# Altium footprint library DC309A.PcbLib: 63 footprints (part 3 of 4)
Each footprint in its own frame and in the unit in brackets; x right, y up, seen from the top. Pads: shape width x height; smd on the part's side, far side on the other; paste and mask are expansions set on the pad; w line width, h text height; cw(c..) or ccw(c..) is an arc to the next point about the centre after c.
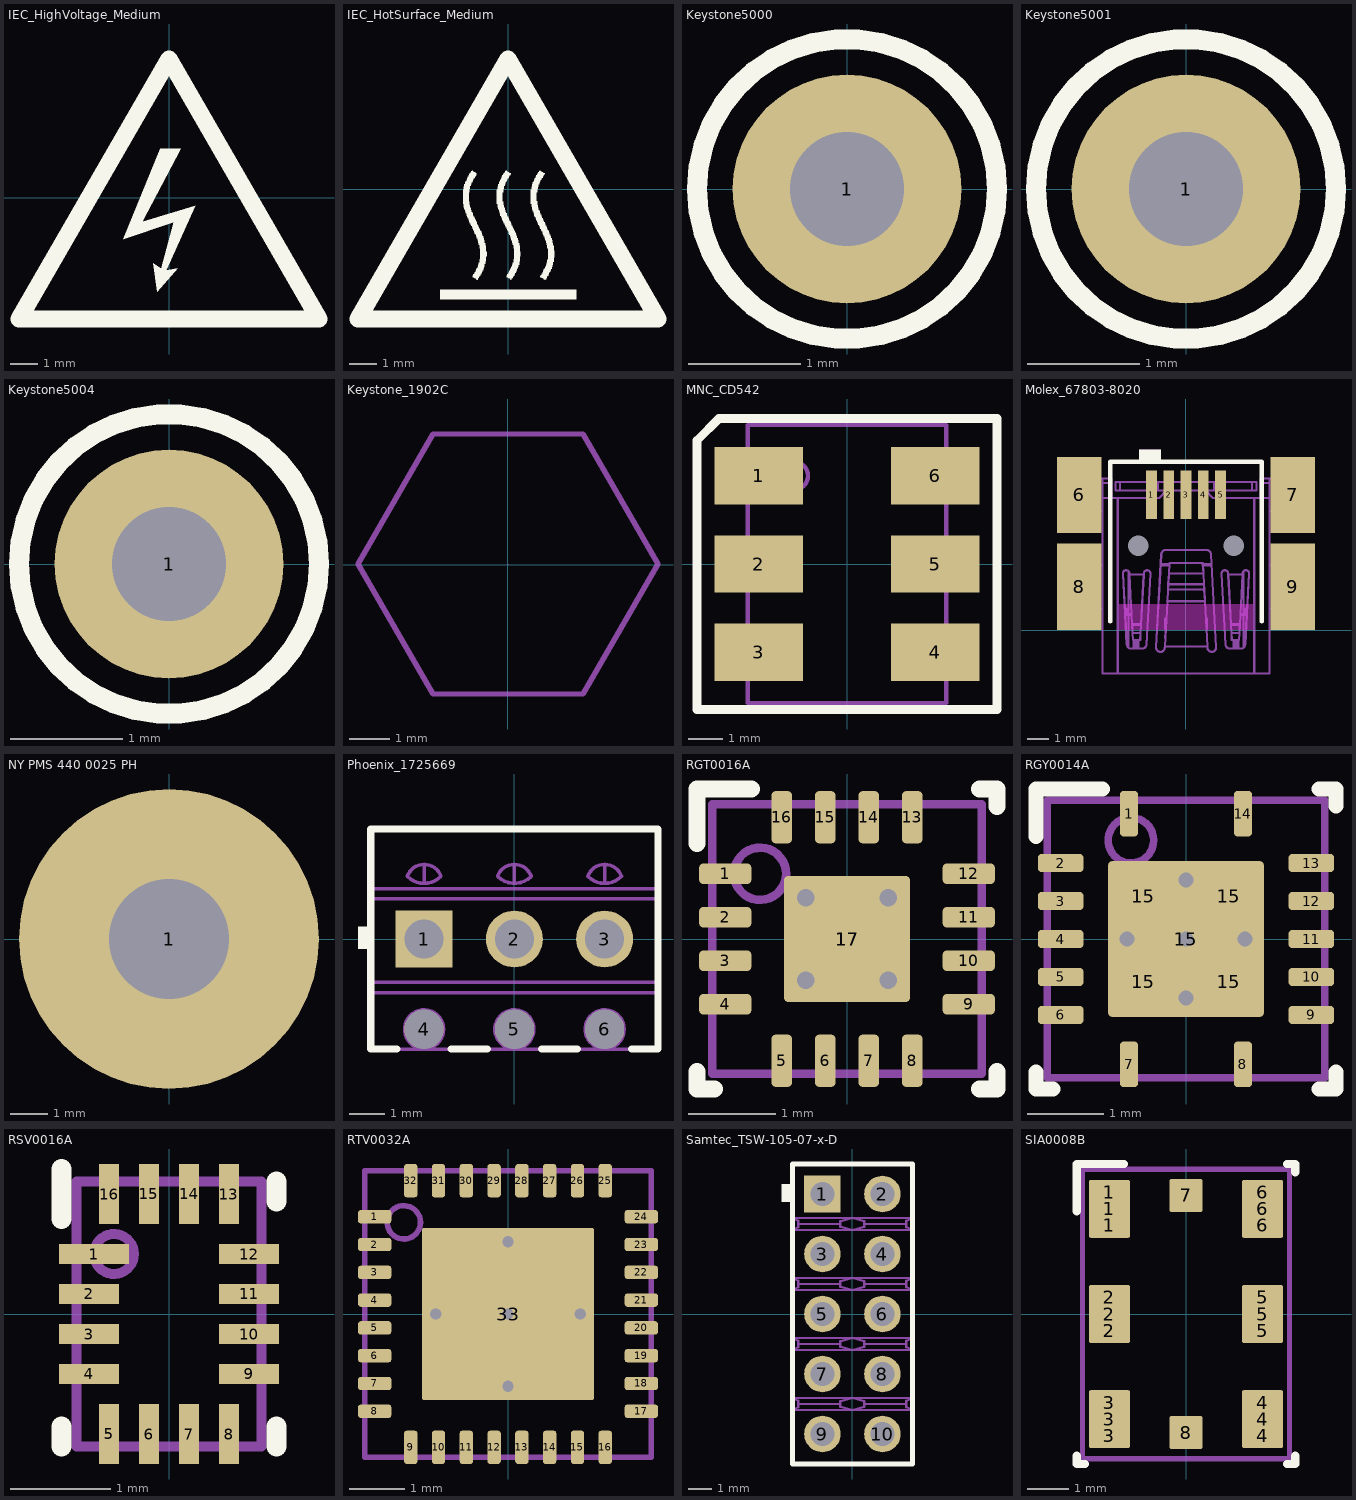
[diagram p2: the footprints below, top view; thin cyan lines are the x and y axes]

## IEC_HighVoltage_Medium [mm]
height 1.75
Top Overlay:
  region: -0.33,1.803 0.432,1.803 -0.991,-0.889 0.965,-0.305 -0.102,-2.667 0.33,-2.591 -0.432,-3.454 -0.584,-2.413 -0.279,-2.616 0.178,-0.914 -1.676,-1.524
  lines w0.635: -5.512,-4.458 5.512,-4.458 0,5.089 -5.512,-4.458

## IEC_HotSurface_Medium [mm]
Top Overlay:
  drawing of 7 lines, arcs and shapes, not listed

## Keystone5000 [mil] "For Keystone 500x miniature loop terminals"
height 181.1
pads (1):
  round 80 hole 40: 1(0,0)
Top Overlay:
  circle w7: c0,0 r52.5
Mechanical 5:
  circle w3.94: c0,0 r52.5
  text ".Designator" at -17,97 h18
3D body "Keystone_5000.stp": height 181.97, standoff -118.11, extent -49,-49 49.04,49.24

## Keystone5001 [mil] "For Keystone 500x miniature loop terminals"
height 181.1
pads (1):
  round 80 hole 40: 1(0,0)
Top Overlay:
  circle w7: c0,0 r52.5
Mechanical 5:
  circle w3.94: c0,0 r52.5
  text ".Designator" at -14.87,88 h18
3D body "Keystone_5001.stp": height 181.97, standoff -118.11, extent -49,-49 49.04,49.24

## Keystone5004 [mil] "For Keystone 500x miniature loop terminals"
height 181.1
pads (1):
  round 80 hole 40: 1(0,0)
Top Overlay:
  circle w7: c0,0 r52.5
Mechanical 5:
  circle w3.94: c0,0 r52.5
  text ".Designator" at -17,91 h18
3D body "Keystone_5004.stp": height 181.97, standoff -118.11, extent -49,-49 49.04,49.24

## Keystone_1902C [mil] "Hex Standoff, 4-40 threaded, nylon"
height 500
pads (1):
  round 1 on Mech3: 0(0,0)
Mechanical 5:
  lines w5: -145.29,0.49 -72.56,126.47 72.92,126.47 145.65,0.49 72.92,-125.49 -72.56,-125.49 -145.29,0.49
  text ".Designator" at -60,-20 h40
3D body "Keystone_1902C.stp": height 501, standoff 1, extent -144.95,-125.98 146,125.98

## MNC_CD542 [mil] "Mini-Circuits recommended land pattern 98-CD.doc rev K 11/06/06"
height 112
pads (6):
  rect 100x65 smd: 1(-100,100) 2(-100,0) 3(-100,-100) 4(100,-100) 5(100,0) 6(100,100)
Top Overlay:
  lines w10: -170,-165 0,-165 170,-165 170,0 170,165 0,165 -145,165 -170,140 -170,0 -170,-165
Mechanical 5:
  circle w5: c-60,100 r15.81
  lines w5: -112.5,-115 -141,-115 -141,-85 -112.5,-85 ; -112.5,-15 -141,-15 -141,15 -112.5,15 ; -112.5,85 -141,85 -141,115 -112.5,115 ; 112.5,-115 141,-115 141,-85 112.5,-85 ; 112.5,-15 141,-15 141,15 112.5,15 ; 112.5,85 141,85 141,115 112.5,115 ; -112.5,-157.5 -112.5,0 -112.5,157.5 0,157.5 112.5,157.5 112.5,0 112.5,-157.5 0,-157.5 -112.5,-157.5
  text ".Designator" at -31.64,-15.65 h40
3D body: height 10, standoff 0, extent 112.52,85.02 140.98,114.98
3D body: height 10, standoff 0, extent 112.52,-14.98 140.98,14.98
3D body: height 10, standoff 0, extent 112.52,-114.98 140.98,-85.02
3D body: height 10, standoff 0, extent -140.98,85.02 -112.52,114.98
3D body: height 112, standoff 0, extent -112.48,-157.48 112.48,157.48
3D body: height 10, standoff 0, extent -140.98,-14.98 -112.52,14.98
3D body: height 10, standoff 0, extent -140.98,-114.98 -112.52,-85.02
3D body: height 112.01, standoff 110, extent -75.79,84.21 -44.21,115.79

## Molex_67803-8020 [mm] "SMD, 5-Leads, Body 9.9x9mm, R/A"
height 4
pads (11):
  rect 0.5x2.25 smd: 1(-1.6,6.25) 2(-0.8,6.25) 3(0,6.25) 4(0.8,6.25) 5(1.6,6.25)
  rect 2.05x3.5 smd: 6(-4.925,6.25) 7(4.925,6.25)
  rect 2.05x4 smd: 8(-4.925,2) 9(4.925,2)
  rect 0x0 hole 0.95 unplated mask+0.127: MH1(-2.2,3.9) MH2(2.2,3.9)
Top Layer keep-out:
  region: 3.1,0 3.1,1.2 -3.1,1.2 -3.1,0
Top Overlay:
  region: -2.162,8.342 -2.162,7.87 -1.146,7.87 -1.146,8.342
  lines w0.2: -3.5,0.4 -3.5,7.775 3.5,7.775 3.5,0.4
Mechanical 5:
  drawing of 270 lines, arcs and shapes, not listed
  text ".Designator" at -4.379,4.858 h1.02
3D body "678038020.stp": height 4, standoff -0.95, extent -4.95,-2 4.95,7

## NY PMS 440 0025 PH [mm] "4-40 nylon screw and mounting hole"
height 1.905
pads (1):
  round 8 hole 3.2: 1(0,0)
Mechanical 5:
  circle w0.127: c0,0 r3.789
  text ".Designator" at -1.524,-0.508 h1.02
3D body "B_F_NY PMS 440 0025 PH.stp": height 2.69, standoff -8.74, extent -3.302,-3.3 3.296,3.3

## Phoenix_1725669 [mm] "Terminal Block, 3x1, 2.54 mm, TH"
height 8.5
pads (6):
  rect 1.6x1.6 hole 1.1: 1(-2.54,0)
  round 1.6 hole 1.1: 2(0,0) 3(2.54,0)
  round 1.1 hole 1.1 unplated mask+0.127: 4(-2.54,-2.54) 5(0,-2.54) 6(2.54,-2.54)
Top Overlay:
  rectangle: -4.4,-0.275 -4.075,0.35
  lines w0.2: -3.3,-3.1 -4.04,-3.1 -4.04,3.1 4.04,3.1 4.04,-3.1 3.3,-3.1 ; -1.78,-3.1 -0.76,-3.1 ; 0.76,-3.1 1.78,-3.1
Mechanical 5:
  circle w0.1: c0,-2.54 r0.55
  circle w0.1: c-2.54,-2.54 r0.55
  circle w0.1: c2.54,-2.54 r0.55
  lines w0.1: -4.04,-1.51 4.04,-1.51 ; -4.04,-1.22 4.04,-1.22 ; -4.04,1.132 4.04,1.132 ; -4.04,1.417 4.04,1.417 ; -2.54,1.6 -2.54,2.1 ; 0,1.6 0,2.1 ; 2.54,1.6 2.54,2.1 ; -2.54,2.1 ccw(c-2.54,1.6) -3.013,1.763 ccw(c-2.54,2.235) -2.067,1.763 ccw(c-2.54,1.6) -2.54,2.1 ; 0,2.1 cw(c0,1.6) 0.473,1.763 cw(c0,2.235) -0.473,1.763 cw(c0,1.6) 0,2.1 ; 2.54,2.1 ccw(c2.54,1.6) 2.067,1.763 ccw(c2.54,2.235) 3.013,1.763 ccw(c2.54,1.6) 2.54,2.1 ; -4.04,-3.1 4.04,-3.1 4.04,3.1 -4.04,3.1 -4.04,-3.1
  text ".Designator" at 6.34,0.503 h1.02
3D body "1725669.stp": height 8.5, standoff -3.5, extent -4.04,-3.1 4.04,3.1

## RGT0016A [mm] "QFN, 16-Leads, Body 3x3mm, Pitch 0.5mm, Thermal Pad 1.45x1.45mm, TI Recommended"
height 1
pads (18):
  rrect42% 0.6x0.24 smd: 1(-1.4,0.75) 2(-1.4,0.25) 3(-1.4,-0.25) 4(-1.4,-0.75) 9(1.4,-0.75) 10(1.4,-0.25) 11(1.4,0.25) 12(1.4,0.75)
  rrect42% 0.24x0.6 smd: 5(-0.75,-1.4) 6(-0.25,-1.4) 7(0.25,-1.4) 8(0.75,-1.4) 13(0.75,1.4) 14(0.25,1.4) 15(-0.25,1.4) 16(-0.75,1.4)
  rrect50% 1.34x1.34 on Top Paste: 17(0,0)
  rrect7% 1.45x1.45 smd paste-0.725: 17(0,0)
via 0.475,0.475 diameter 0.5 hole 0.2
via 0.475,-0.475 diameter 0.5 hole 0.2
via -0.475,-0.475 diameter 0.5 hole 0.2
via -0.475,0.475 diameter 0.5 hole 0.2
Top Overlay:
  lines w0.2: -1.725,-1.525 -1.725,-1.725 -1.525,-1.725 ; -1.725,1.1 -1.725,1.725 -1.1,1.725 ; 1.525,-1.725 1.725,-1.725 1.725,-1.525 ; 1.525,1.725 1.725,1.725 1.725,1.525
Mechanical 5:
  circle w0.1: c-1,0.75 r0.3
  lines w0.1: -1.55,-1.55 1.55,-1.55 1.55,1.55 -1.55,1.55 -1.55,-1.55
  text ".Designator" at 0.791,-1.176 h1.4
3D body "RGT0016A.stp": height 1, standoff 0, extent -1.5,-1.5 1.5,1.5

## RGY0014A [mm] "QFN, 14-Leads, Body 3.5x3.5mm, Pitch 0.5mm, Thermal Pad 2.05x2.05mm, TI Recommended"
height 1
pads (19):
  rrect42% 0.24x0.6 smd: 1(-0.75,1.65) 7(-0.75,-1.65) 8(0.75,-1.65) 14(0.75,1.65)
  rrect42% 0.6x0.24 smd: 2(-1.65,1) 3(-1.65,0.5) 4(-1.65,0) 5(-1.65,-0.5) 6(-1.65,-1) 9(1.65,-1) 10(1.65,-0.5) 11(1.65,0) 12(1.65,0.5) 13(1.65,1)
  rrect50% 0.92x0.92 on Top Paste: 15(-0.56,-0.56) 15(-0.56,0.56) 15(0.56,-0.56) 15(0.56,0.56)
  rrect5% 2.05x2.05 smd paste-1.025: 15(0,0)
via 0,0 diameter 0.5 hole 0.2
via 0.775,0 diameter 0.5 hole 0.2
via 0,0.775 diameter 0.5 hole 0.2
via -0.775,0 diameter 0.5 hole 0.2
via 0,-0.775 diameter 0.5 hole 0.2
Top Overlay:
  lines w0.2: -1.975,-1.75 -1.975,-1.975 -1.75,-1.975 ; -1.975,1.35 -1.975,1.975 -1.1,1.975 ; 1.75,-1.975 1.975,-1.975 1.975,-1.75 ; 1.75,1.975 1.975,1.975 1.975,1.75
Mechanical 5:
  circle w0.1: c-0.725,1.3 r0.3
  lines w0.1: -1.825,-1.825 -1.825,1.825 1.825,1.825 1.825,-1.825 -1.825,-1.825
  text ".Designator" at -0.603,-0.678 h0.76
3D body "RGY0014A.stp": height 0.97, standoff 0, extent -1.75,-1.75 1.75,1.75

## RSV0016A [mm] "QFN, 16-Leads, Body 1.8x2.6mm, Pitch 0.4mm, TI Recommended"
height 0.55
pads (16):
  rect 0.7x0.2 smd: 1(-0.75,0.6)
  rect 0.6x0.2 smd: 2(-0.8,0.2) 3(-0.8,-0.2) 4(-0.8,-0.6) 9(0.8,-0.6) 10(0.8,-0.2) 11(0.8,0.2) 12(0.8,0.6)
  rect 0.2x0.6 smd: 5(-0.6,-1.2) 6(-0.2,-1.2) 7(0.2,-1.2) 8(0.6,-1.2) 13(0.6,1.2) 14(0.2,1.2) 15(-0.2,1.2) 16(-0.6,1.2)
Top Overlay:
  lines w0.2: -1.075,-1.325 -1.075,-1.125 ; -1.075,0.95 -1.075,1.45 ; 1.075,-1.325 1.075,-1.125 ; 1.075,1.125 1.075,1.325
Mechanical 5:
  circle w0.1: c-0.55,0.6 r0.2
  lines w0.1: -0.925,-1.325 -0.925,1.325 0.925,1.325 0.925,-1.325 -0.925,-1.325
  text ".Designator" at 0.533,-0.178 h0.38
3D body: height 0.55, standoff 0, extent -0.925,-1.325 0.925,1.325
3D body: height 0.56, standoff 0.4, extent -0.749,0.401 -0.351,0.799

## RTV0032A [mm] "WQFN-32"
height 0.8
pads (33):
  rrect42% 0.6x0.24 smd: 1(-2.4,1.75) 2(-2.4,1.25) 3(-2.4,0.75) 4(-2.4,0.25) 5(-2.4,-0.25) 6(-2.4,-0.75) 7(-2.4,-1.25) 8(-2.4,-1.75) 17(2.4,-1.75) 18(2.4,-1.25) 19(2.4,-0.75) 20(2.4,-0.25) 21(2.4,0.25) 22(2.4,0.75) 23(2.4,1.25) 24(2.4,1.75)
  rrect42% 0.24x0.6 smd: 9(-1.75,-2.4) 10(-1.25,-2.4) 11(-0.75,-2.4) 12(-0.25,-2.4) 13(0.25,-2.4) 14(0.75,-2.4) 15(1.25,-2.4) 16(1.75,-2.4) 25(1.75,2.4) 26(1.25,2.4) 27(0.75,2.4) 28(0.25,2.4) 29(-0.25,2.4) 30(-0.75,2.4) 31(-1.25,2.4) 32(-1.75,2.4)
  rrect3% 3.1x3.1 smd paste-1.55: 33(0,0)
via 1.3,0 diameter 0.5 hole 0.2
via 0,1.3 diameter 0.5 hole 0.2
via 0,0 diameter 0.5 hole 0.2
via 0,-1.3 diameter 0.5 hole 0.2
via -1.3,0 diameter 0.5 hole 0.2
Top Paste:
  region: 0.1,0.15 0.1,1.4 0.1,1.41 0.108,1.428 0.122,1.442 0.14,1.45 0.15,1.45 1.4,1.45 1.41,1.45 1.428,1.442 1.442,1.428 1.45,1.41 1.45,1.4 1.45,0.15 1.45,0.14 1.442,0.122 1.428,0.108 1.41,0.1 1.4,0.1 0.15,0.1 0.14,0.1 0.122,0.108 0.108,0.122 0.1,0.14
  region: -0.1,0.15 -0.1,1.4 -0.1,1.41 -0.108,1.428 -0.122,1.442 -0.14,1.45 -0.15,1.45 -1.4,1.45 -1.41,1.45 -1.428,1.442 -1.442,1.428 -1.45,1.41 -1.45,1.4 -1.45,0.15 -1.45,0.14 -1.442,0.122 -1.428,0.108 -1.41,0.1 -1.4,0.1 -0.15,0.1 -0.14,0.1 -0.122,0.108 -0.108,0.122 -0.1,0.14
  region: -0.1,-0.15 -0.1,-1.4 -0.1,-1.41 -0.108,-1.428 -0.122,-1.442 -0.14,-1.45 -0.15,-1.45 -1.4,-1.45 -1.41,-1.45 -1.428,-1.442 -1.442,-1.428 -1.45,-1.41 -1.45,-1.4 -1.45,-0.15 -1.45,-0.14 -1.442,-0.122 -1.428,-0.108 -1.41,-0.1 -1.4,-0.1 -0.15,-0.1 -0.14,-0.1 -0.122,-0.108 -0.108,-0.122 -0.1,-0.14
  region: 0.1,-0.15 0.1,-1.4 0.1,-1.41 0.108,-1.428 0.122,-1.442 0.14,-1.45 0.15,-1.45 1.4,-1.45 1.41,-1.45 1.428,-1.442 1.442,-1.428 1.45,-1.41 1.45,-1.4 1.45,-0.15 1.45,-0.14 1.442,-0.122 1.428,-0.108 1.41,-0.1 1.4,-0.1 0.15,-0.1 0.14,-0.1 0.122,-0.108 0.108,-0.122 0.1,-0.14
Mechanical 5:
  circle w0.1: c-1.875,1.65 r0.3
  lines w0.1: -2.575,-2.575 2.575,-2.575 2.575,2.575 -2.575,2.575 -2.575,-2.575
  text ".Designator" at 1.17,0.304 h1.02
3D body "RTV0032A.stp": height 0.8, standoff 0, extent -2.5,-2.5 2.5,2.5

## Samtec_TSW-105-07-x-D [mm] "Header, 2.54mm, 5x2, TH"
height 8.38
pads (10):
  rect 1.55x1.55 hole 1.02: 1(-1.27,5.08)
  round 1.55 hole 1.02: 2(1.27,5.08) 3(-1.27,2.54) 4(1.27,2.54) 5(-1.27,0) 6(1.27,0) 7(-1.27,-2.54) 8(1.27,-2.54) 9(-1.27,-5.08) 10(1.27,-5.08)
Top Overlay:
  rectangle: -3,4.75 -2.54,5.5
  lines w0.2: -2.54,-6.35 -2.54,6.35 2.54,6.35 2.54,-6.35 -2.54,-6.35
Mechanical 5:
  lines w0.1: -2.54,-4.064 -2.54,-6.35 2.54,-6.35 2.54,-4.064 ; -2.54,-4.064 0,-4.064 ; -2.54,-4.064 -2.286,-3.94 -2.286,-3.81 ; -2.54,-3.556 -2.54,-1.524 ; -2.54,-3.556 0,-3.556 ; -2.54,-3.556 -2.286,-3.68 -2.286,-3.81 ; -2.54,-1.524 -2.286,-1.4 -2.286,-1.27 ; -2.54,-1.524 0,-1.524 ; -2.54,-1.016 -2.286,-1.14 -2.286,-1.27 ; -2.54,-1.016 -2.54,1.016 ; -2.54,-1.016 0,-1.016 ; -2.54,1.016 0,1.016 ; -2.54,1.016 -2.286,1.14 -2.286,1.27 ; -2.54,1.524 0,1.524 ; -2.54,1.524 -2.54,3.556 ; -2.54,1.524 -2.286,1.4 -2.286,1.27 ; -2.54,3.556 0,3.556 ; -2.54,3.556 -2.286,3.68 -2.286,3.81 ; -2.54,4.064 -2.54,6.35 2.54,6.35 2.54,4.064 ; -2.54,4.064 -2.286,3.94 -2.286,3.81 ; -2.54,4.064 0,4.064 ; -2.286,-3.81 -0.508,-3.81 ; -2.286,-1.27 -0.508,-1.27 ; -2.286,1.27 -0.508,1.27 ; -2.286,3.81 -0.508,3.81 ; -0.508,-3.81 -0.508,-3.693 0,-3.556 ; -0.508,-3.81 -0.508,-3.927 0,-4.064 ; -0.508,-1.27 -0.508,-1.387 0,-1.524 ; -0.508,-1.27 -0.508,-1.153 0,-1.016 ; -0.508,1.27 -0.508,1.153 0,1.016 ; -0.508,1.27 -0.508,1.387 0,1.524 ; -0.508,3.81 -0.508,3.927 0,4.064 ; -0.508,3.81 -0.508,3.693 0,3.556 ; 0,-4.064 0.508,-3.927 0.508,-3.81 ; 0,-4.064 2.54,-4.064 ; 0,-3.556 2.54,-3.556 ; 0,-3.556 0.508,-3.693 0.508,-3.81 ; 0,-1.524 2.54,-1.524 ; 0,-1.524 0.508,-1.387 0.508,-1.27 ; 0,-1.016 0.508,-1.153 0.508,-1.27 ; 0,-1.016 2.54,-1.016 ; 0,1.016 0.508,1.153 0.508,1.27 ; 0,1.016 2.54,1.016 ; 0,1.524 2.54,1.524 ; 0,1.524 0.508,1.387 0.508,1.27 ; 0,3.556 0.508,3.693 0.508,3.81 ; 0,3.556 2.54,3.556 ; 0,4.064 0.508,3.927 0.508,3.81 ; 0,4.064 2.54,4.064 ; 0.508,-3.81 2.286,-3.81 ; 0.508,-1.27 2.286,-1.27 ; 0.508,1.27 2.286,1.27 ; 0.508,3.81 2.286,3.81 ; 2.286,-3.81 2.286,-3.94 2.54,-4.064 ; 2.286,-3.81 2.286,-3.68 2.54,-3.556 ; 2.286,-1.27 2.286,-1.14 2.54,-1.016 ; 2.286,-1.27 2.286,-1.4 2.54,-1.524 ; 2.286,1.27 2.286,1.14 2.54,1.016 ; 2.286,1.27 2.286,1.4 2.54,1.524 ; 2.286,3.81 2.286,3.68 2.54,3.556 ; 2.286,3.81 2.286,3.94 2.54,4.064 ; 2.54,-3.556 2.54,-1.524 ; 2.54,-1.016 2.54,1.016 ; 2.54,1.524 2.54,3.556
  text ".Designator" at 4.318,-1.092 h1.85
3D body "TSW-105-07-F-D.stp": height 8.39, standoff -2.53, extent -2.54,-6.35 2.54,6.35

## SIA0008B [mm] "SIP 8-Leads, Body 5x7mm"
height 1.1
pads (20):
  rrect50% 1x0.6 on Top Paste: 1(-1.85,2.14) 1(-1.85,2.94) 2(-1.85,-0.4) 2(-1.85,0.4) 3(-1.85,-2.94) 3(-1.85,-2.14) 4(1.85,-2.94) 4(1.85,-2.14) 5(1.85,-0.4) 5(1.85,0.4) 6(1.85,2.14) 6(1.85,2.94)
  rrect10% 1x1.4 smd paste-0.5: 1(-1.85,2.54) 2(-1.85,0) 3(-1.85,-2.54) 4(1.85,-2.54) 5(1.85,0) 6(1.85,2.54)
  rrect12% 0.8x0.8 smd: 7(0,2.865) 8(0,-2.865)
Top Overlay:
  lines w0.2: -2.64,-3.425 -2.64,-3.625 -2.44,-3.625 ; -2.64,2.485 -2.64,3.625 -1.5,3.625 ; 2.44,-3.625 2.64,-3.625 2.64,-3.425 ; 2.44,3.625 2.64,3.625 2.64,3.425
Mechanical 5:
  circle w0.1: c-1.84,2.54 r0.25
  lines w0.127: -2.5,-3.5 -2.5,3.5 2.5,3.5 2.5,-3.5 -2.5,-3.5
  text ".Designator" at 0.024,-1.109 h0.76
3D body: height 1.1, standoff 0, extent -2.564,-3.564 2.564,3.564
3D body: height 1.13, standoff 0, extent -2.156,2.224 -1.525,2.856